# Altium footprint library QFN45P300X300X100_HS-21N RJE.PcbLib: 1 footprints
Each footprint in its own frame and in the unit in brackets; x right, y up, seen from the top. Pads: shape width x height; smd on the part's side, far side on the other; paste and mask are expansions set on the pad; w line width, h text height; cw(c..) or ccw(c..) is an arc to the next point about the centre after c.
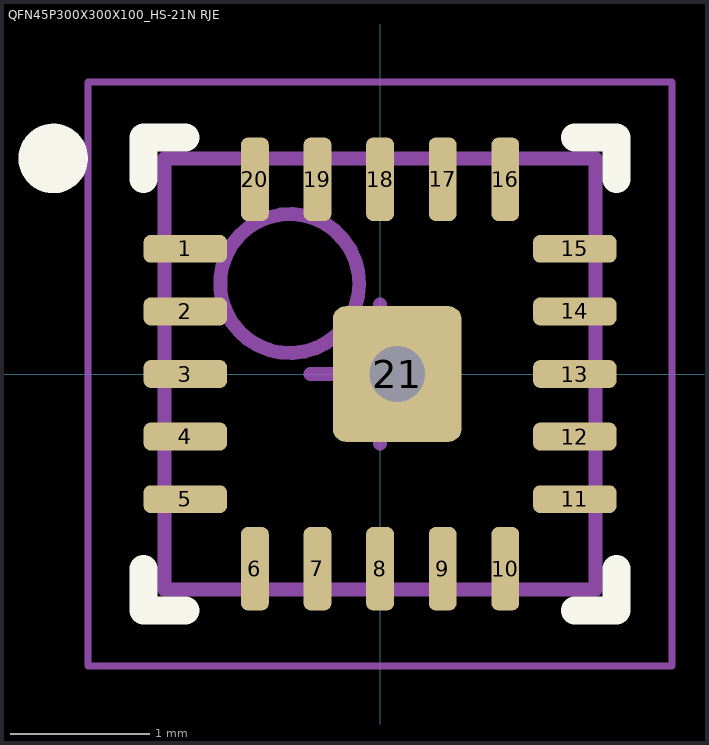
[diagram p0: the footprint, top view; thin cyan lines are the x and y axes]

## QFN45P300X300X100_HS-21N RJE [mm] "QFN, 20-Leads, Body 3.00x3.00mm, Pitch 0.45mm, Thermal Pad 0.93x0.98mm, IPC Medium Density"
height 1
pads (21):
  rrect50% 0.6x0.2 smd mask+0.05: 1(-1.4,0.9) 2(-1.4,0.45) 3(-1.4,0) 4(-1.4,-0.45) 5(-1.4,-0.9) 11(1.4,-0.9) 12(1.4,-0.45) 13(1.4,0) 14(1.4,0.45) 15(1.4,0.9)
  rrect50% 0.2x0.6 smd mask+0.05: 6(-0.9,-1.4) 7(-0.45,-1.4) 8(0,-1.4) 9(0.45,-1.4) 10(0.9,-1.4) 16(0.9,1.4) 17(0.45,1.4) 18(0,1.4) 19(-0.45,1.4) 20(-0.9,1.4)
  rrect20% 0.926x0.975 smd mask+0.05: 21(0.123,0)
via 0.123,0 diameter 0.6 hole 0.4
Top Overlay:
  circle w0.25: c-2.35,1.55 r0.125
  lines w0.2: -1.7,-1.4 -1.7,-1.7 -1.4,-1.7 ; -1.7,1.4 -1.7,1.7 -1.4,1.7 ; 1.4,-1.7 1.7,-1.7 1.7,-1.4 ; 1.4,1.7 1.7,1.7 1.7,1.4
Top Assembly:
  circle w0.1: c-0.65,0.65 r0.5
  lines w0.1: -1.55,-1.55 -1.55,1.55 1.55,1.55 1.55,-1.55 -1.55,-1.55
Top Courtyard:
  lines w0.05: -2.1,-2.1 -2.1,2.1 2.1,2.1 2.1,-2.1 -2.1,-2.1
  lines w0.1: -0.5,0 0.5,0 ; 0,-0.5 0,0.5
3D body "QFN45P300X300X100_HS-21N.step": height 1, standoff 0, extent -1.6,-1.6 1.6,1.6